# EAGLE library part CONNECTOR-20 (library marius)
20-pin connectors
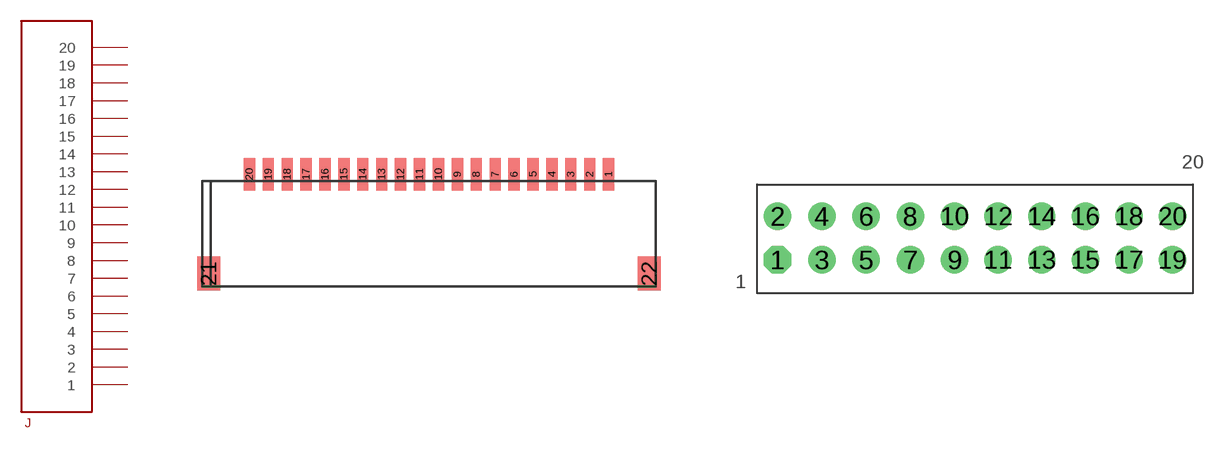
[diagram p18: symbol with the pads of FFC2-84981; footprints FFC2-84981, HEADER-10X2]

Designator prefix J

## CONNECTOR-20FFC20  [FFC2-84981]
1  1
2  2
3  3
4  4
5  5
6  6
7  7
8  8
9  9
10  10
11  11
12  12
13  13
14  14
15  15
16  16
17  17
18  18
19  19
20  20

## CONNECTOR-20HEADERX2 (MPN: M20-9981046.; PROD: HARWIN)  [HEADER-10X2]
Pads as for FFC2-84981

## CONNECTOR-20HEADERX2-FEMALE  [HEADER-10X2-FEMALE]
Pads as for FFC2-84981

## CONNECTOR-20MINITEK127-90DEG-HEADER (MPN: 20021122-00020T4LF)  [20021122-00020T4LF]
Pads as for FFC2-84981

## CONNECTOR-20MINITEK127-PLUG (MPN: 20021321-00020C4LF)  [20021321-00020C4LF]
Pads as for FFC2-84981

## CONNECTOR-202-1734248-0  [TYCO_2-1734248-0]
Pads as for FFC2-84981

## Footprint FFC2-84981 (pad centres in mm)
smd 0.6 x 1.7: 1 14.5,0; 2 13.5,0; 3 12.5,0; 4 11.5,0; 5 10.5,0; 6 9.5,0; 7 8.5,0; 8 7.5,0; 9 6.5,0; 10 5.5,0; 11 4.5,0; 12 3.5,0; 13 2.5,0; 14 1.5,0; 15 0.5,0; 16 -0.5,0; 17 -1.5,0; 18 -2.5,0; 19 -3.5,0; 20 -4.5,0
smd 1.2 x 1.8: 21 -6.65,-5.25; 22 16.65,-5.25

## Footprint HEADER-10X2 (pad centres in mm)
5-pin JST PH Shrouded Header 2.0mm pitch P/N B5B-PH-K-S. Mating plug PHR-5
drill 1 pad 1.6 octagon: 1 -11.51,-1.222
drill 1 pad 1.6: 2 -11.51,1.317; 3 -8.93,-1.222; 4 -8.93,1.317; 5 -6.35,-1.222; 6 -6.35,1.317; 7 -3.77,-1.222; 8 -3.77,1.317; 9 -1.19,-1.222; 10 -1.19,1.317; 11 1.35,-1.222; 12 1.35,1.317; 13 3.89,-1.222; 14 3.89,1.317; 15 6.43,-1.222; 16 6.43,1.317; 17 8.97,-1.222; 18 8.97,1.317; 19 11.51,-1.222; 20 11.51,1.317

## Footprint HEADER-10X2-FEMALE (pad centres in mm)
drill 1 pad 1.6 octagon: 1 -11.51,1.317
drill 1 pad 1.6: 2 -11.51,-1.222; 3 -8.93,1.317; 4 -8.93,-1.222; 5 -6.35,1.317; 6 -6.35,-1.222; 7 -3.77,1.317; 8 -3.77,-1.222; 9 -1.19,1.317; 10 -1.19,-1.222; 11 1.35,1.317; 12 1.35,-1.222; 13 3.89,1.317; 14 3.89,-1.222; 15 6.43,1.317; 16 6.43,-1.222; 17 8.97,1.317; 18 8.97,-1.222; 19 11.51,1.317; 20 11.51,-1.222

## Footprint 20021122-00020T4LF (pad centres in mm)
smd 0.8 x 1.65: 1 -5.715,-7.325; 2 -5.715,-4.475; 3 -4.445,-7.325; 4 -4.445,-4.475; 5 -3.175,-7.325; 6 -3.175,-4.475; 7 -1.905,-7.325; 8 -1.905,-4.475; 9 -0.635,-7.325; 10 -0.635,-4.475; 11 0.635,-7.325; 12 0.635,-4.475; 13 1.905,-7.325; 14 1.905,-4.475; 15 3.175,-7.325; 16 3.175,-4.475; 17 4.445,-7.325; 18 4.445,-4.475; 19 5.715,-7.325; 20 5.715,-4.475

## Footprint 20021321-00020C4LF (pad centres in mm)
smd 0.76 x 2.05: 1 -5.715,1.775; 2 -5.715,-1.775; 3 -4.445,1.775; 4 -4.445,-1.775; 5 -3.175,1.775; 6 -3.175,-1.775; 7 -1.905,1.775; 8 -1.905,-1.775; 9 -0.635,1.775; 10 -0.635,-1.775; 11 0.635,1.775; 12 0.635,-1.775; 13 1.905,1.775; 14 1.905,-1.775; 15 3.175,1.775; 16 3.175,-1.775; 17 4.445,1.775; 18 4.445,-1.775; 19 5.715,1.775; 20 5.715,-1.775

## Footprint TYCO_2-1734248-0 (pad centres in mm)
smd 0.6 x 1.85: 1 9,1.8; 2 8,1.8; 3 7,1.8; 4 6,1.8; 5 5,1.8; 6 4,1.8; 7 3,1.8; 8 2,1.8; 9 1,1.8; 10 0,1.8; 11 -1,1.8; 12 -2,1.8; 13 -3,1.8; 14 -4,1.8; 15 -5,1.8; 16 -5.96,1.8; 17 -6.96,1.8; 18 -7.96,1.8; 19 -8.96,1.8; 20 -9.96,1.8
smd 0.6 x 1.65: 21 -9.96,-1.9; 22 -8.96,-1.9; 23 -7.96,-1.9; 24 -6.96,-1.9; 25 -5.96,-1.9; 26 -4.96,-1.9; 27 -3.96,-1.9; 28 -2.96,-1.9; 29 -1.96,-1.9; 30 -0.96,-1.9; 31 0.04,-1.9; 32 1.04,-1.9; 33 2.04,-1.9; 34 3.04,-1.9; 35 4.04,-1.9; 36 5.04,-1.9; 37 6.04,-1.9; 38 7.04,-1.9; 39 8.04,-1.9; 40 9.04,-1.9